# EAGLE library part USB_MICRO_LEGS (library bats-n-gons)
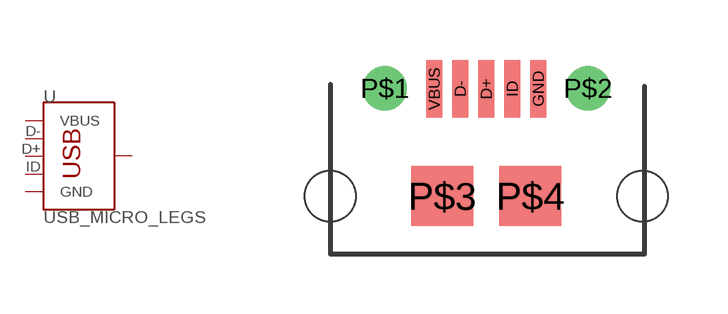
[diagram p1: symbol with the pads of USB_MICRO_LEGS_2; footprint USB_MICRO_LEGS_2]

Designator prefix -

## USB_MICRO_LEGS  [USB_MICRO_LEGS_2]
D+  D+
D-  D-
GND  GND  pwr
ID  ID
P$4  SHIELD
VBUS  VBUS  pwr

## Footprint USB_MICRO_LEGS_2 (pad centres in mm)
smd 0.4 x 1.45: D+ 5.08,3.745; D- 4.43,3.745; GND 6.38,3.745; ID 5.73,3.745; VBUS 3.78,3.745
drill 0.6: P$1 2.54,3.76; P$2 7.62,3.76
smd 1.55 x 1.5: P$3 3.98,1.06; P$4 6.18,1.06
hole 1.27 at 8.98,1.06
hole 1.27 at 1.18,1.06